# EAGLE library part MAX6749 (library stm32f4)
IC MPU/RESET CIRC SOT23-8
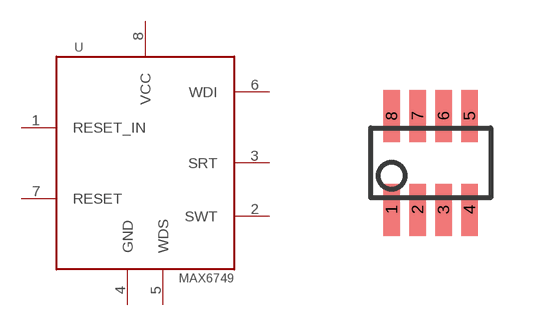
[diagram p2: symbol with the pads of SOT23; footprint SOT23]

Designator prefix U

## MAX6749  [SOT23]
1  RESET_IN
2  SWT
3  SRT
4  GND
5  WDS
6  WDI
7  RESET
8  VCC

## Footprint SOT23 (pad centres in mm)
smd 0.42 x 1.3: 1 -0.975,-1.175; 2 -0.325,-1.175; 3 0.325,-1.175; 4 0.975,-1.175; 5 0.975,1.175; 6 0.325,1.175; 7 -0.325,1.175; 8 -0.975,1.175